# EAGLE library part CARD-MICRO-SD-ADAPTER (library Geisa)
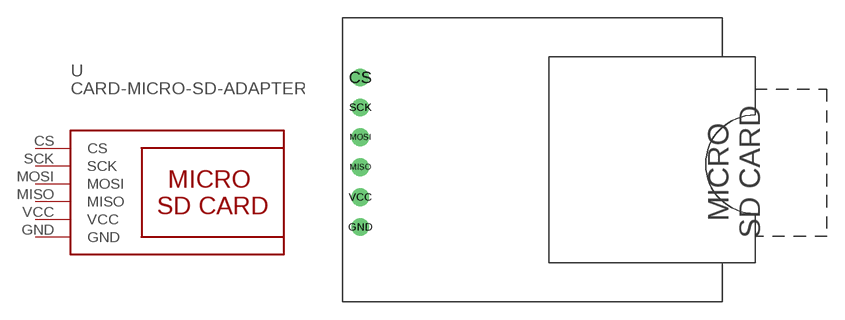
[diagram p7: symbol with the pads of CARD-MICRO-SD-ADAPTER; footprint CARD-MICRO-SD-ADAPTER]

Designator prefix -

## CARD-MICRO-SD-ADAPTER  [CARD-MICRO-SD-ADAPTER]
CS  CS
GND  GND  pwr
MISO  MISO
MOSI  MOSI
SCK  SCK
VCC  VCC  pwr

## Footprint CARD-MICRO-SD-ADAPTER (pad centres in mm)
drill 1: CS -11.43,5.08; GND -11.43,-7.62; MISO -11.43,-2.54; MOSI -11.43,0; SCK -11.43,2.54; VCC -11.43,-5.08